# EAGLE library part TPS56528 (library borkedlabs-powerics)
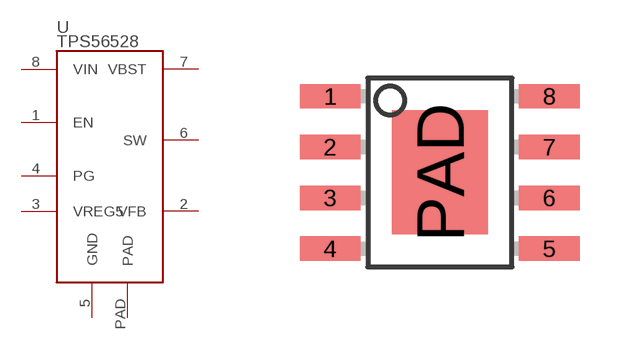
[diagram p6: symbol with the pads of PDSO-8; footprint PDSO-8]

Designator prefix U

## TPS56528 (MANU: TI; MPN: TPS56528DDAR; PACKAGE: SOIC8-PAD)  [PDSO-8]
1  EN
2  VFB
3  VREG5
4  PG
5  GND
6  SW
7  VBST
8  VIN
PAD  PAD

## Footprint PDSO-8 (pad centres in mm)
smd 1.524 x 0.61: 1 -2.743,1.905; 2 -2.743,0.635; 3 -2.743,-0.635; 4 -2.743,-1.905; 5 2.743,-1.905; 6 2.743,-0.635; 7 2.743,0.635; 8 2.743,1.905
smd 2.4 x 3.1: PAD 0,0